# Altium schematic symbol library Schlib1.SchLib: 28 symbols
Pins are listed as number, name and electrical type; pins without a type are passive.

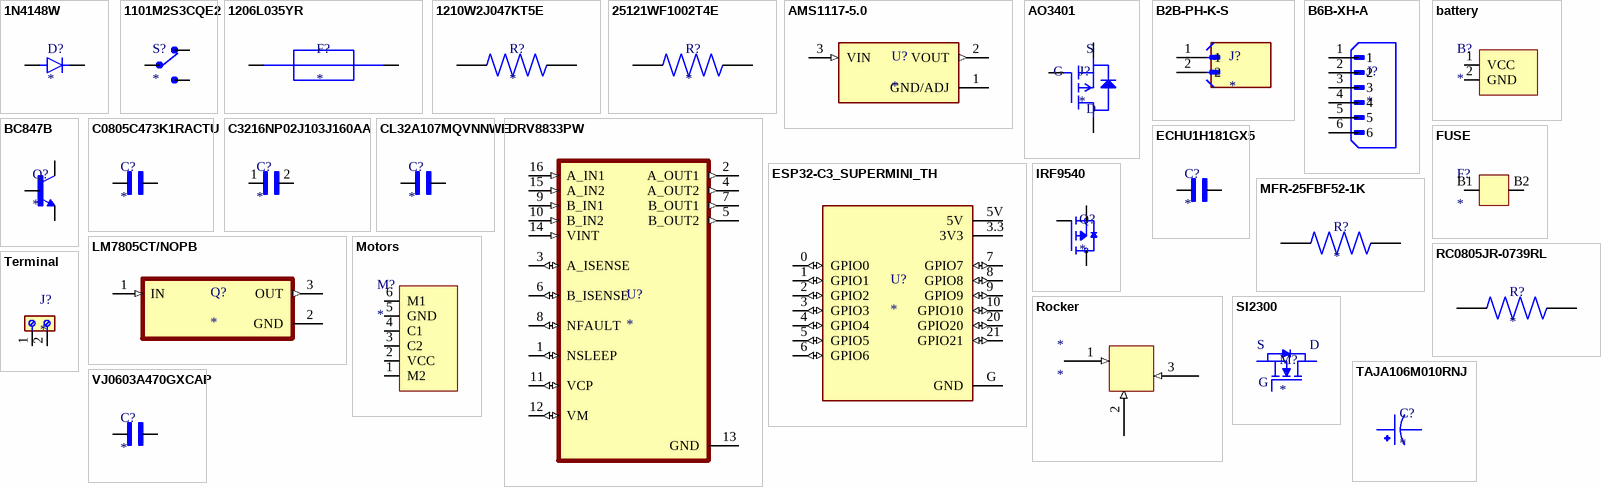
[diagram p0: symbols 1N4148W to VJ0603A470GXCAP]

## 1N4148W
designator D?
Small Signal Diode, SOD-123F, 100V, 0.15A, 150Â°C; MF: Diotec Semiconductor; MP: 1N4148W; SnapEDA_Link: https://www.snapeda.com/parts/1N4148W/Diotec/view-part/?ref=snap; Package: SOD-123F Diotec; Value: *; Check_prices: https://www.snapeda.com/parts/1N4148W/Diotec/view-part/?ref=eda
footprint SODFL3816X120N
pins: A, C K

## 1101M2S3CQE2
designator S?
Switch,Slide,Sealed,SPDT,ON-NONE-ON,PC Mnt,.200 Blk Act,6A,120VAC,PC Thru-Hole | C&K 1101M2S3CQE2; SnapEDA_Link: https://www.snapeda.com/parts/1101M2S3CQE2/C%2526K/view-part/?ref=snap; Package: None; Value: *; MF: C&K; MP: 1101M2S3CQE2; Check_prices: https://www.snapeda.com/parts/1101M2S3CQE2/C%2526K/view-part/?ref=eda
footprint SW_1101M2S3CQE2
pins: 1, 2, 3

## 1206L035YR
designator F?
Polymeric PTC Resettable Fuse 6V 350 mA Ih Surface Mount 1206 (3216 Metric), Concave; MF: Littelfuse Inc.; MP: 1206L035YR; SnapEDA_Link: https://www.snapeda.com/parts/1206L035YR/Littelfuse/view-part/?ref=snap; Package: 1206 Littelfuse; Value: *; Check_prices: https://www.snapeda.com/parts/1206L035YR/Littelfuse/view-part/?ref=eda
footprint FUSC3216X75N
pins: 1, 2

## 1210W2J047KT5E
designator R?
470m Ohm 1/2W Thick Film Resistor 1210 Chip - Surface Mount; MF: Uni-Royal; MP: 1210W2J047KT5E; SnapEDA_Link: https://www.snapeda.com/parts/1210W2J047KT5E/Uni-Royal/view-part/?ref=snap; Package: 1210-2 ROYAL; Value: *; Check_prices: https://www.snapeda.com/parts/1210W2J047KT5E/Uni-Royal/view-part/?ref=eda
footprint RESC3126X65N
pins: 1, 2

## 25121WF1002T4E
designator R?
10K Ohm 1W Thick Film Resistor 2512 Chip - Surface Mount; MF: Uni-Royal; MP: 25121WF1002T4E; SnapEDA_Link: https://www.snapeda.com/parts/25121WF1002T4E/Uni-Royal/view-part/?ref=snap; Package: 2512-2 ROYAL; Value: *; Check_prices: https://www.snapeda.com/parts/25121WF1002T4E/Uni-Royal/view-part/?ref=eda
footprint RESC6332X65N
pins: 1, 2

## AMS1117-5.0
designator U?
1A LOW DROPOUT VOLTAGE REGULATOR; MP: AMS1117-5.0; MF: ams; Package: SOT-223 Seeed Technology; SnapEDA_Link: https://www.snapeda.com/parts/AMS1117-5.0/ams/view-part/?ref=snap; Check_prices: https://www.snapeda.com/parts/AMS1117-5.0/ams/view-part/?ref=eda; Availability: Not in stock; Value: *; Price: None
footprint SOT229P700X180-4N
pins: 1 GND/ADJ (power), 2 VOUT (out), 3 VIN (in)

## AO3401
designator J?
P-Channel 30 V 4A (Ta) 1.4W (Ta) Surface Mount SOT-23-3; MF: Alpha & Omega Semiconductor; MP: AO3401; SnapEDA_Link: https://www.snapeda.com/parts/AO3401/Alpha/view-part/?ref=snap; Package: SOT-23-3 Alpha &amp; Omega Semiconductor; Value: *; Check_prices: https://www.snapeda.com/parts/AO3401/Alpha/view-part/?ref=eda
footprint SOT23
pins: 1 G, 2 S, 3 D

## B2B-PH-K-S
designator J?
Connector Header Through Hole 2 position 0.079 (2.00mm); MF: JST Sales America Inc.; MP: B2B-PH-K-S; SnapEDA_Link: https://www.snapeda.com/parts/B2B-PH-K-S/JST/view-part/?ref=snap; Package: None; Value: *; Check_prices: https://www.snapeda.com/parts/B2B-PH-K-S/JST/view-part/?ref=eda
footprint JST_B2B-PH-K-S
pins: 1, 2

## B6B-XH-A
designator J?
MF: {'manufacturer': u'JST Sales America Inc.'}; MP: B6B-XH-A; Package: None; Price: None; Value: *; Availability: Unavailable
footprint JST_B6B-XH-A
pins: 1, 2, 3, 4, 5, 6

## battery
designator B?
footprint Battery
pins: 1 VCC (power), 2 GND (power)

## BC847B
designator Q?
BJT, SOT-23, 45V, 100mA, NPN, 0.25W, 150Â°C; MF: Diotec Semiconductor; MP: BC847B; SnapEDA_Link: https://www.snapeda.com/parts/BC847B/Diotec/view-part/?ref=snap; Package: SOT-23 Diotec; Value: *; Check_prices: https://www.snapeda.com/parts/BC847B/Diotec/view-part/?ref=eda
footprint TRANS_BC847B
pins: 1 B, 2 E, 3 C

## C0805C473K1RACTU
designator C?
0805 X7R ceramic capacitor,47nF 100V | KEMET C0805C473K1RACTU; SnapEDA_Link: https://www.snapeda.com/parts/C0805C473K1RACTU/KEMET/view-part/?ref=snap; Package: 805-2 KEMET; Value: *; MF: KEMET; MP: C0805C473K1RACTU; Check_prices: https://www.snapeda.com/parts/C0805C473K1RACTU/KEMET/view-part/?ref=eda
footprint CAPC2012X88N
pins: 1, 2

## C3216NP02J103J160AA
designator C?
C Series 1206 10 nF 630 V Â±5 % Tolerance NP0 SMT Multilayer Ceramic Capacitor; MF: TDK; MP: C3216NP02J103J160AA; Package: 3216 TDK; Value: *; Purchase-URL: https://pricing.snapeda.com/search/part/C3216NP02J103J160AA/?ref=eda; Availability: In Stock; Check_prices: https://www.snapeda.com/parts/C3216NP02J103J160AA/TDK/view-part/?ref=eda; SnapEDA_Link: https://www.snapeda.com/parts/C3216NP02J103J160AA/TDK/view-part/?ref=snap; Price: None
footprint CAPC3216X180N
pins: 1, 2

## CL32A107MQVNNWE
designator C?
100 ÂµF Â±20% 6.3V Ceramic Capacitor X5R 1210 (3225 Metric); MF: Samsung; MP: CL32A107MQVNNWE; SnapEDA_Link: https://www.snapeda.com/parts/CL32A107MQVNNWE/Samsung/view-part/?ref=snap; Package: SMD-2 Samsung; Value: *; Check_prices: https://www.snapeda.com/parts/CL32A107MQVNNWE/Samsung/view-part/?ref=eda
footprint CAPC3225X280N
pins: 1, 2

## DRV8833PW
designator U?
10.8-V, 2-A dual H-bridge motor driver with current regulation; MF: Texas Instruments; MP: DRV8833PW; SnapEDA_Link: https://www.snapeda.com/parts/DRV8833PW/Texas+Instruments/view-part/?ref=snap; Package: TSSOP-16 Texas Instruments; Value: *; Check_prices: https://www.snapeda.com/parts/DRV8833PW/Texas+Instruments/view-part/?ref=eda
footprint SOP65P640X120-16N
pins: 1 NSLEEP (io), 2 A_OUT1 (out), 3 A_ISENSE (io), 4 A_OUT2 (out), 5 B_OUT2 (out), 6 B_ISENSE (io), 7 B_OUT1 (out), 8 NFAULT (io), 9 B_IN1 (in), 10 B_IN2 (in), 11 VCP (io), 12 VM (io), 13 GND (power), 14 VINT (in), 15 A_IN2 (in), 16 A_IN1 (in)

## ECHU1H181GX5
designator C?
Capacitor Pps Film, 180pf, 50v, 2%, 0805capacitor Pps Film, 180pf, 50v, 2%, 0805; MF: Panasonic; MP: ECHU1H181GX5; Digi-Key_Part_Number: PCF1287TR-ND; SnapEDA_Link: https://www.snapeda.com/parts/ECHU1H181GX5/Panasonic/view-part/?ref=snap; Check_prices: https://www.snapeda.com/parts/ECHU1H181GX5/Panasonic/view-part/?ref=eda; Package: 0805-2 Panasonic; Purchase-URL: https://pricing.snapeda.com/search/part/ECHU1H181GX5/?ref=eda; Value: *
footprint CAP_ECHU1H181GX5
pins: 1, 2

## ESP32-C3_SUPERMINI_TH
designator U?
Super tiny ESP32-C3 board; MF: Espressif Systems; MP: ESP32-C3 SuperMini_TH; SnapEDA_Link: https://www.snapeda.com/parts/ESP32-C3%20SuperMini_TH/Espressif+Systems/view-part/?ref=snap; Package: Package; Value: *; Check_prices: https://www.snapeda.com/parts/ESP32-C3%20SuperMini_TH/Espressif+Systems/view-part/?ref=eda
footprint MODULE_ESP32-C3_SUPERMINI_TH
pins: 0 GPIO0 (io), 1 GPIO1 (io), 2 GPIO2 (io), 3 GPIO3 (io), 3.3 3V3 (power), 4 GPIO4 (io), 5 GPIO5 (io), 5V (power), 6 GPIO6 (io), 7 GPIO7 (io), 8 GPIO8 (io), 9 GPIO9 (io), 10 GPIO10 (io), 20 GPIO20 (io), 21 GPIO21 (io), G GND (power)

## FUSE
designator F?
footprint FuseHolder
pins: B1 (power), B2 (power)

## IRF9540
designator Q?
P-Channel 100 V 19A (Tc) 3.7W (Ta), 150W (Tc) Surface Mount DÂ²PAK (TO-263); MF: Vishay; MP: IRF9540; SnapEDA_Link: https://www.snapeda.com/parts/IRF9540/Vishay+Siliconix/view-part/?ref=snap; Package: TO-220-3 Vishay; Value: *; Check_prices: https://www.snapeda.com/parts/IRF9540/Vishay+Siliconix/view-part/?ref=eda
footprint TO254P1052X465X1989-3
pins: 1 G, 2 D, 3 S

## LM7805CT/NOPB
designator Q?
MF: {'manufacturer': u'Texas Instruments'}; MP: LM7805CT/NOPB; Package: None; Price: None; Value: *; Availability: Unavailable
footprint voltREG
pins: 1 IN (in), 2 GND (power), 3 OUT (out)

## MFR-25FBF52-1K
designator R?
1.07 kOhms Â±1% 0.25W, 1/4W Through Hole Resistor Axial - Metal Film; MF: Yageo; MP: MFR-25FBF52-1K; SnapEDA_Link: https://www.snapeda.com/parts/MFR-25FBF52-1K/Yageo/view-part/?ref=snap; Package: RADIAL-2 YAGEO; Value: *; Check_prices: https://www.snapeda.com/parts/MFR-25FBF52-1K/Yageo/view-part/?ref=eda
footprint RESAD1100W55L680D260
pins: 1, 2

## Motors
designator M?
footprint JST_B6B-XH-A
pins: 1 M2, 2 VCC, 3 C2, 4 C1, 5 GND, 6 M1

## RC0805JR-0739RL
designator R?
Surface Mount Thick Film Resistor, RC Series, 39 ohm, 125 mW, - 5%, 150 V, 0805 [2012 Metric]; MF: Yageo; MP: RC0805JR-0739RL; SnapEDA_Link: https://www.snapeda.com/parts/RC0805JR-0739RL/Yageo/view-part/?ref=snap; Package: 2012 Yageo; Value: *; Check_prices: https://www.snapeda.com/parts/RC0805JR-0739RL/Yageo/view-part/?ref=eda
footprint RESC2012X60N
pins: 1, 2

## Rocker
designator *
footprint rocker
pins: 1 (in), 2 (in), 3 (in)

## SI2300
designator M?
Trans MOSFET N-CH 20V 4.5A 3-Pin SOT-23 T/R; MF: Micro Commercial Components; MP: SI2300; SnapEDA_Link: https://www.snapeda.com/parts/SI2300/Micro+Commercial+Components/view-part/?ref=snap; Package: None; Value: *; Check_prices: https://www.snapeda.com/parts/SI2300/Micro+Commercial+Components/view-part/?ref=eda
footprint SOT23(1)
pins: 1 G (io), 2 S (io), 3 D (io)

## TAJA106M010RNJ
designator C?
Capacitor;Tantalum;Cap 10uF;Tol 20%;SMT;Vol-Rtg 10V;Code 3216;TR | AVX TAJA106M010RNJ; SnapEDA_Link: https://www.snapeda.com/parts/TAJA106M010RNJ/AVX/view-part/?ref=snap; Package: 1206 AVX; Value: *; MF: AVX; MP: TAJA106M010RNJ; Check_prices: https://www.snapeda.com/parts/TAJA106M010RNJ/AVX/view-part/?ref=eda
footprint CAPMP3216X180N
pins: 1, 2

## Terminal
designator J?
2 Position Wire to Board Terminal Block Horizontal with Board 0.197 (5.00mm) Through Hole; MF: WÃ¼rth Elektronik; MP: 691137710002; SnapEDA_Link: https://www.snapeda.com/parts/691137710002/W%25C3%25BCrth+Elektronik+Midcom/view-part/?ref=snap; Package: None; Value: *; Check_prices: https://www.snapeda.com/parts/691137710002/W%25C3%25BCrth+Elektronik+Midcom/view-part/?ref=eda
footprint Terminal
pins: 1, 2

## VJ0603A470GXCAP
designator C?
47 pF Â±2% 200V Ceramic Capacitor C0G, NP0 0603 (1608 Metric); MF: Vishay Vitramon; MP: VJ0603A470GXCAP; SnapEDA_Link: https://www.snapeda.com/parts/VJ0603A470GXCAP/Vishay/view-part/?ref=snap; Package: 0603-2 VISHAY; Value: *; Check_prices: https://www.snapeda.com/parts/VJ0603A470GXCAP/Vishay/view-part/?ref=eda
footprint CAPC1608X97N
pins: 1, 2